# Altium footprint library LED_SMD.PcbLib: 79 footprints (part 1 of 5)
Each footprint in its own frame and in the unit in brackets; x right, y up, seen from the top. Pads: shape width x height; smd on the part's side, far side on the other; paste and mask are expansions set on the pad; w line width, h text height; cw(c..) or ccw(c..) is an arc to the next point about the centre after c.
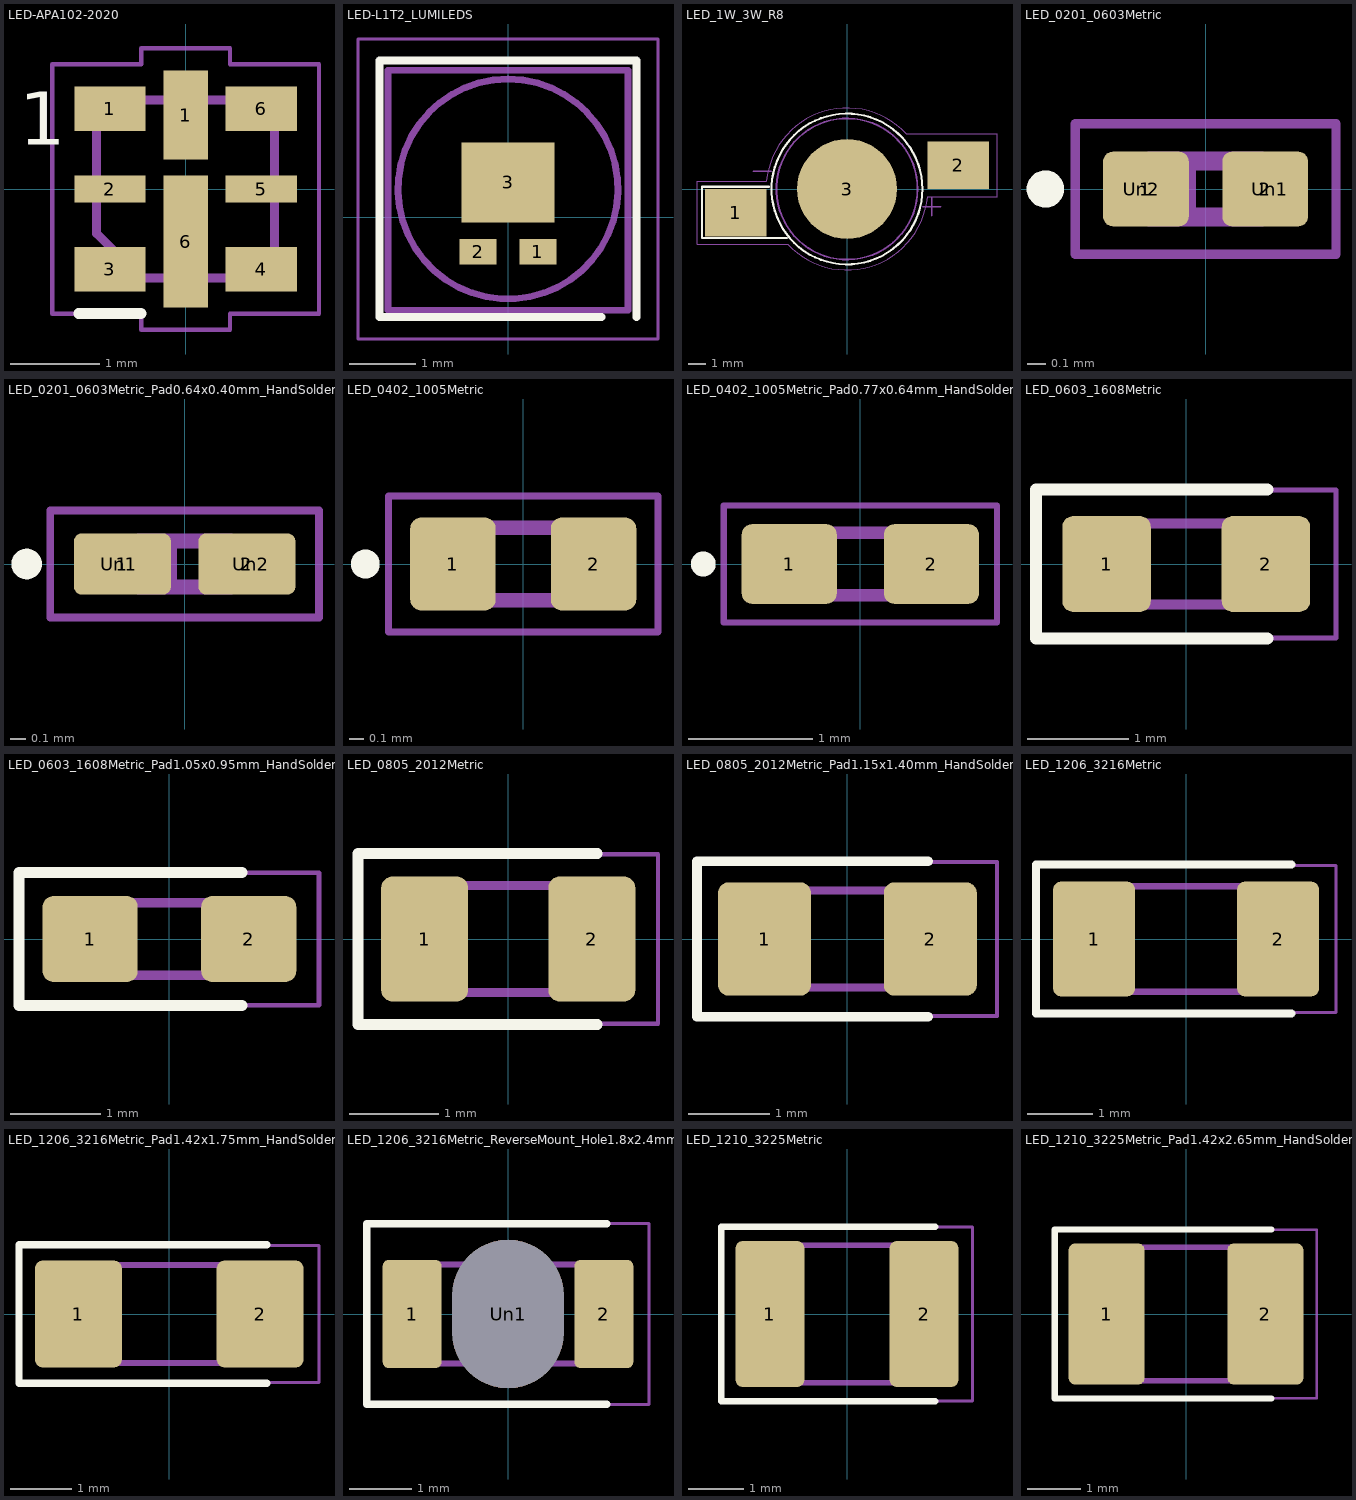
[diagram p0: the footprints below, top view; thin cyan lines are the x and y axes]

## LED-APA102-2020 [mm]
pads (8):
  rect 0.8x0.5 smd: 1(-0.85,0.9) 3(-0.85,-0.9) 4(0.85,-0.9) 6(0.85,0.9)
  rect 0.5x1 smd: 1(0,0.83)
  rect 0.8x0.3 smd: 2(-0.85,0) 5(0.85,0)
  rect 0.5x1.48 smd: 6(0,-0.59)
F.SilkS:
  lines w0.12: -1.2,-1.4 -0.5,-1.4
  text "1" at -1.871,0.5 h0.6
F.CrtYd:
  lines w0.05: -1.5,-1.4 -1.5,1.4 -0.5,1.4 -0.5,1.58 0.5,1.58 0.5,1.4 1.5,1.4 1.5,-1.4 0.5,-1.4 0.5,-1.58 -0.5,-1.58 -0.5,-1.4 -1.5,-1.4
F.Fab:
  lines w0.1: -1,-0.5 -0.5,-1 1,-1 1,1 -1,1 -1,-0.5
  text "'.Designator'" at -1.239,-0.277 h0.3

## LED-L1T2_LUMILEDS [mm]
pads (3):
  rect 0.55x0.38 smd: 1(0.45,-0.52) 2(-0.45,-0.52)
  rect 1.4x1.2 smd: 3(0,0.52)
F.SilkS:
  lines w0.12: 1.4,-1.5 -1.93,-1.5 -1.93,2.35 1.93,2.35 1.93,-1.5
F.CrtYd:
  lines w0.05: -2.25,-1.83 -2.25,2.67 2.25,2.67 2.25,-1.83 -2.25,-1.83
F.Fab:
  circle w0.1: c0,0.42 r1.65
  lines w0.1: -1.8,-1.4 1.8,-1.4 1.8,2.2 -1.8,2.2 -1.8,-1.4

## LED_1W_3W_R8 [mm]
pads (3):
  rect 3.5x2.7 smd: 1(-6.35,-1.35) 2(6.35,1.35)
  round 5.7 smd: 3(0,0)
F.SilkS:
  circle w0.12: c0,0 r4.3
  lines w0.12: -4.445,0.127 -8.255,0.127 -8.255,-2.794 -3.429,-2.794
F.CrtYd:
  lines w0.05: -3.37,-3.15 -8.55,-3.15 -8.55,0.45 -4.59,0.45 cw(c0,0) 3.369,3.149 ; -3.369,-3.149 ccw(c0,0) 4.59,-0.45 8.55,-0.45 8.55,3.15 3.37,3.15
F.Fab:
  circle w0.1: c0,0 r4.025
  lines w0.1: -5.334,1.016 -4.318,1.016 ; -2.54,0 -1.27,0 ; -1.27,-1.27 -1.27,1.27 ; 2.54,0 1.27,0 1.27,-1.27 ; 4.318,-1.016 5.334,-1.016 ; 4.826,-1.524 4.826,-0.508 ; -1.27,0 1.27,-1.27 ; -1.27,0 1.27,1.27 1.27,-1.27
  text "'.Designator'" at -3.897,-0.357 h1

## LED_0201_0603Metric [mm]
pads (4):
  rrect25% 0.46x0.4 smd: 1(-0.32,0) 2(0.32,0)
  rrect25% 0.318x0.36 on Top Paste: Un1(0.345,0) Un2(-0.345,0)
F.SilkS:
  circle w0.1: c-0.86,0 r0.05
F.CrtYd:
  lines w0.05: -0.7,-0.35 -0.7,0.35 0.7,0.35 0.7,-0.35 -0.7,-0.35
F.Fab:
  lines w0.1: -0.2,-0.15 -0.2,0.15 ; -0.1,-0.15 -0.1,0.15 ; -0.3,-0.15 0.3,-0.15 0.3,0.15 -0.3,0.15 -0.3,-0.15
  text "'.Designator'" at -1.014,0.467 h0.25
3D body "LED_0201_0603Metric.step": height 0.2, standoff 0, extent -0.325,-0.175 0.325,0.175

## LED_0201_0603Metric_Pad0.64x0.40mm_HandSolder [mm]
pads (4):
  rrect25% 0.635x0.4 smd: 1(-0.407,0) 2(0.407,0)
  rrect25% 0.458x0.36 on Top Paste: Un1(-0.433,0) Un2(0.433,0)
F.SilkS:
  circle w0.1: c-1.035,0 r0.05
F.CrtYd:
  lines w0.05: -0.88,-0.35 0.88,-0.35 0.88,0.35 -0.88,0.35 -0.88,-0.35
F.Fab:
  lines w0.1: -0.2,-0.15 -0.2,0.15 ; -0.1,-0.15 -0.1,0.15 ; -0.3,-0.15 0.3,-0.15 0.3,0.15 -0.3,0.15 -0.3,-0.15
  text "'.Designator'" at -1.014,0.467 h0.25
3D body "LED_0201_0603Metric.step": height 0.2, standoff 0, extent -0.325,-0.175 0.325,0.175

## LED_0402_1005Metric [mm]
pads (2):
  rrect25% 0.59x0.64 smd: 1(-0.485,0) 2(0.485,0)
F.SilkS:
  circle w0.1: c-1.09,0 r0.05
F.CrtYd:
  lines w0.05: -0.93,-0.47 0.93,-0.47 0.93,0.47 -0.93,0.47 -0.93,-0.47
F.Fab:
  lines w0.1: -0.4,-0.25 -0.4,0.25 ; -0.3,-0.25 -0.3,0.25 ; -0.5,-0.25 -0.5,0.25 0.5,0.25 0.5,-0.25 -0.5,-0.25
  text "'.Designator'" at -0.974,-0.089 h0.25
3D body "LED_0402_1005Metric.step": height 0.5, standoff 0, extent -0.5,-0.25 0.5,0.25

## LED_0402_1005Metric_Pad0.77x0.64mm_HandSolder [mm]
pads (2):
  rrect25% 0.765x0.64 smd: 1(-0.573,0) 2(0.573,0)
F.SilkS:
  circle w0.1: c-1.265,0 r0.05
F.CrtYd:
  lines w0.05: -1.1,-0.47 -1.1,0.47 1.1,0.47 1.1,-0.47 -1.1,-0.47
F.Fab:
  lines w0.1: -0.4,-0.25 -0.4,0.25 ; -0.3,-0.25 -0.3,0.25 ; -0.5,-0.25 -0.5,0.25 0.5,0.25 0.5,-0.25 -0.5,-0.25
  text "'.Designator'" at -0.974,-0.089 h0.25
3D body "LED_0402_1005Metric.step": height 0.5, standoff 0, extent -0.5,-0.25 0.5,0.25

## LED_0603_1608Metric [mm]
pads (2):
  rrect25% 0.875x0.95 smd: 1(-0.787,0) 2(0.787,0)
F.SilkS:
  lines w0.12: 0.8,-0.735 -1.485,-0.735 -1.485,0.735 0.8,0.735
F.CrtYd:
  lines w0.05: -1.48,-0.73 1.48,-0.73 1.48,0.73 -1.48,0.73 -1.48,-0.73
F.Fab:
  lines w0.1: -0.8,-0.4 0.8,-0.4 0.8,0.4 -0.5,0.4 -0.8,0.1 -0.8,-0.4
  text "'.Designator'" at -1.559,-0.143 h0.4
3D body "LED_0603_1608Metric_Castellated.step": height 1.1, standoff 0, extent -0.8,-0.4 0.8,0.4

## LED_0603_1608Metric_Pad1.05x0.95mm_HandSolder [mm]
pads (2):
  rrect25% 1.05x0.95 smd: 1(-0.875,0) 2(0.875,0)
F.SilkS:
  lines w0.12: 0.8,-0.735 -1.66,-0.735 -1.66,0.735 0.8,0.735
F.CrtYd:
  lines w0.05: -1.65,-0.73 1.65,-0.73 1.65,0.73 -1.65,0.73 -1.65,-0.73
F.Fab:
  lines w0.1: -0.8,-0.4 0.8,-0.4 0.8,0.4 -0.5,0.4 -0.8,0.1 -0.8,-0.4
  text "'.Designator'" at -1.559,-0.143 h0.4
3D body "LED_0603_1608Metric_Castellated.step": height 1.1, standoff 0, extent -0.8,-0.4 0.8,0.4

## LED_0805_2012Metric [mm]
pads (2):
  rrect25% 0.975x1.4 smd: 1(-0.937,0) 2(0.937,0)
F.SilkS:
  lines w0.12: 1,-0.96 -1.685,-0.96 -1.685,0.96 1,0.96
F.CrtYd:
  lines w0.05: -1.68,-0.95 -1.68,0.95 1.68,0.95 1.68,-0.95 -1.68,-0.95
F.Fab:
  lines w0.1: -1,-0.6 1,-0.6 1,0.6 -0.7,0.6 -1,0.3 -1,-0.6
  text "'.Designator'" at -1.948,-0.179 h0.5
3D body "LED_0805_2012Metric_Castellated.step": height 1.1, standoff 0, extent -1,-0.625 1,0.625

## LED_0805_2012Metric_Pad1.15x1.40mm_HandSolder [mm]
pads (2):
  rrect22% 1.15x1.4 smd: 1(-1.025,0) 2(1.025,0)
F.SilkS:
  lines w0.12: 1,-0.96 -1.86,-0.96 -1.86,0.96 1,0.96
F.CrtYd:
  lines w0.05: -1.85,-0.95 -1.85,0.95 1.85,0.95 1.85,-0.95 -1.85,-0.95
F.Fab:
  lines w0.1: -1,-0.6 1,-0.6 1,0.6 -0.7,0.6 -1,0.3 -1,-0.6
  text "'.Designator'" at -1.948,-0.179 h0.5
3D body "LED_0805_2012Metric_Castellated.step": height 1.1, standoff 0, extent -1,-0.625 1,0.625

## LED_1206_3216Metric [mm]
pads (2):
  rrect20% 1.25x1.75 smd: 1(-1.4,0) 2(1.4,0)
F.SilkS:
  lines w0.12: 1.6,-1.135 -2.285,-1.135 -2.285,1.135 1.6,1.135
F.CrtYd:
  lines w0.05: -2.28,-1.12 2.28,-1.12 2.28,1.12 -2.28,1.12 -2.28,-1.12
F.Fab:
  lines w0.1: -1.6,-0.8 -1.6,0.4 -1.2,0.8 1.6,0.8 1.6,-0.8 -1.6,-0.8
  text "'.Designator'" at -3.117,-0.286 h0.8
3D body "LED_1206_3216Metric_Castellated.step": height 1.1, standoff 0, extent -1.6,-0.8 1.6,0.8

## LED_1206_3216Metric_Pad1.42x1.75mm_HandSolder [mm]
pads (2):
  rrect18% 1.425x1.75 smd: 1(-1.488,0) 2(1.488,0)
F.SilkS:
  lines w0.12: 1.6,-1.135 -2.46,-1.135 -2.46,1.135 1.6,1.135
F.CrtYd:
  lines w0.05: -2.45,-1.12 2.45,-1.12 2.45,1.12 -2.45,1.12 -2.45,-1.12
F.Fab:
  lines w0.1: -1.6,-0.8 -1.6,0.4 -1.2,0.8 1.6,0.8 1.6,-0.8 -1.6,-0.8
  text "'.Designator'" at -3.117,-0.286 h0.8
3D body "LED_1206_3216Metric_Castellated.step": height 1.1, standoff 0, extent -1.6,-0.8 1.6,0.8

## LED_1206_3216Metric_ReverseMount_Hole1.8x2.4mm [mm]
pads (3):
  rrect20% 0.95x1.75 smd: 1(-1.55,0) 2(1.55,0)
  rrect100% 1.8x2.4 hole 2.4 slot 1.8 at 0 deg: Un1(0,0)
F.SilkS:
  lines w0.12: 1.6,-1.46 -2.285,-1.46 -2.285,1.46 1.6,1.46
F.CrtYd:
  lines w0.05: -2.28,-1.46 -2.28,1.46 2.28,1.46 2.28,-1.46 -2.28,-1.46
F.Fab:
  lines w0.1: -1.6,-0.8 -1.6,0.4 -1.2,0.8 1.6,0.8 1.6,-0.8 -1.6,-0.8
  text "'.Designator'" at -3.117,-0.286 h0.8

## LED_1210_3225Metric [mm]
pads (2):
  rrect20% 1.25x2.65 smd: 1(-1.4,0) 2(1.4,0)
F.SilkS:
  lines w0.12: 1.6,-1.585 -2.285,-1.585 -2.285,1.585 1.6,1.585
F.CrtYd:
  lines w0.05: -2.28,-1.58 -2.28,1.58 2.28,1.58 2.28,-1.58 -2.28,-1.58
F.Fab:
  lines w0.1: -1.6,-1.25 1.6,-1.25 1.6,1.25 -0.975,1.25 -1.6,0.625 -1.6,-1.25
  text "'.Designator'" at -3.117,-0.286 h0.8
3D body "LED_1210_3225Metric_Castellated.step": height 1.1, standoff 0, extent -1.6,-1.25 1.6,1.25

## LED_1210_3225Metric_Pad1.42x2.65mm_HandSolder [mm]
pads (2):
  rrect18% 1.425x2.65 smd: 1(-1.488,0) 2(1.488,0)
F.SilkS:
  lines w0.12: 1.6,-1.585 -2.46,-1.585 -2.46,1.585 1.6,1.585
F.CrtYd:
  lines w0.05: -2.45,-1.58 -2.45,1.58 2.45,1.58 2.45,-1.58 -2.45,-1.58
F.Fab:
  lines w0.1: -1.6,-1.25 -1.6,0.625 -0.975,1.25 1.6,1.25 1.6,-1.25 -1.6,-1.25
  text "'.Designator'" at -3.117,-0.286 h0.8
3D body "LED_1210_3225Metric_Castellated.step": height 1.1, standoff 0, extent -1.6,-1.25 1.6,1.25